# EAGLE library part M24LR04E-R (library IPNS_Lib)
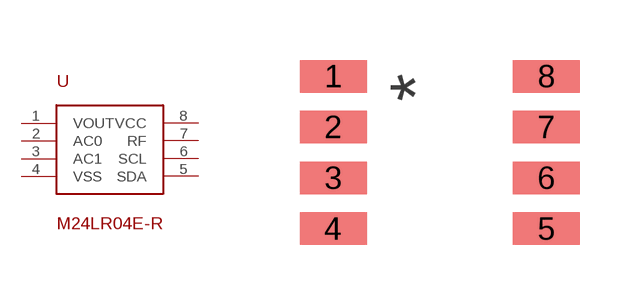
[diagram p6: symbol with the pads of M24LR04E-R; footprint M24LR04E-R]

Designator prefix -

## M24LR04E-R  [M24LR04E-R]
1  VOUT
2  AC0
3  AC1
4  VSS
5  SDA
6  SCL
7  RF
8  VCC

## Footprint M24LR04E-R (pad centres in mm)
smd 1.676 x 0.813: 1 -2.667,1.905; 2 -2.667,0.635; 3 -2.667,-0.635; 4 -2.667,-1.905; 5 2.667,-1.905; 6 2.667,-0.635; 7 2.667,0.635; 8 2.667,1.905